# Altium footprint library sharing.PcbLib: 40 footprints (part 3 of 3)
Each footprint in its own frame and in the unit in brackets; x right, y up, seen from the top. Pads: shape width x height; smd on the part's side, far side on the other; paste and mask are expansions set on the pad; w line width, h text height; cw(c..) or ccw(c..) is an arc to the next point about the centre after c.
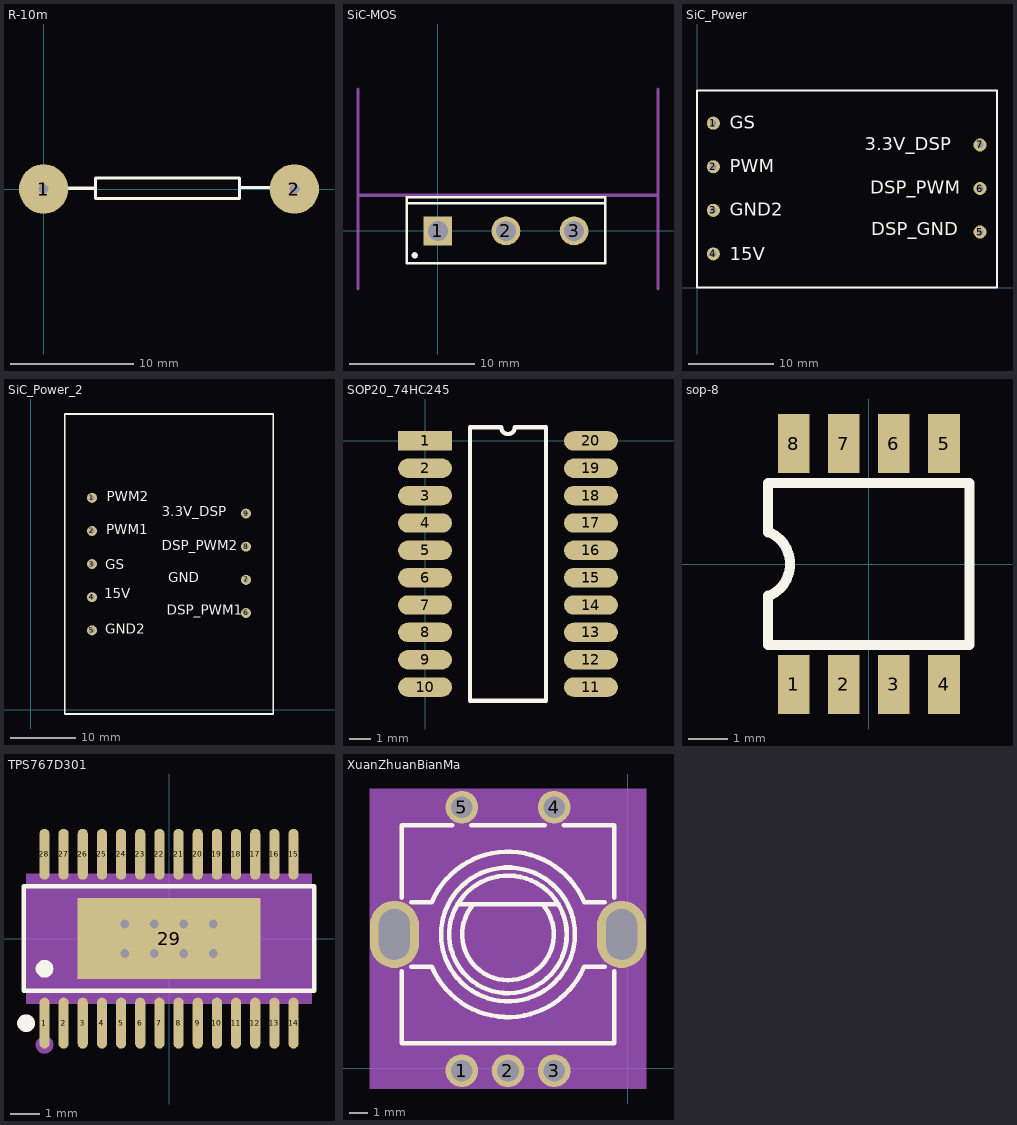
[diagram p2: the footprints below, top view; thin cyan lines are the x and y axes]

## R-10m [mm]
pads (2):
  round 4 hole 0.8: 1(0,0) 2(20.32,0)
Top Overlay:
  lines w0.254: 1.333,0.064 4.191,0.064 ; 15.875,0.127 19.05,0.127 ; 4.191,-0.762 15.875,-0.762 15.875,0.889 4.191,0.889 4.191,-0.762

## SiC-MOS [mm]
pads (3):
  rect 2.3x2.3 hole 1.6: 1(0.011,0)
  round 2.3 hole 1.6: 2(5.461,0) 3(10.911,0)
Top Overlay:
  circle w0.25: c-1.839,-1.95 r0.125
  lines w0.2: -2.489,2.2 13.411,2.2 ; -2.489,-2.6 13.411,-2.6 13.411,2.7 -2.489,2.7 -2.489,-2.6
Mechanical 1:
  lines w0.254: -6.375,-4.646 -6.375,11.354 ; -6.375,2.854 17.625,2.854 ; 17.625,-4.646 17.625,11.354
Mechanical 13:
  lines w0.1: -2.489,-2.6 13.411,-2.6 13.411,2.7 -2.489,2.7 -2.489,-2.6
Mechanical 15:
  lines w0.1: 4.961,0 5.961,0 ; 5.461,-0.5 5.461,0.5
3D body: height 24.6, standoff 3.7, extent -2.488,-2.599 13.41,2.699

## SiC_Power [mil]
pads (7):
  round 60 hole 30: 1(75,755) 2(75,555) 3(75,355) 4(75,155) 5(1300,255) 6(1300,455) 7(1300,655)
Top Overlay:
  lines w10: 0,0 0,905.51 1377.95,905.51 1377.95,0 0,0
  text "DSP_GND" at 800,240 h60
  text "DSP_PWM" at 795,430 h60
  text "3.3V_DSP" at 770,630 h60
  text "15V" at 150,125 h60
  text "GND2" at 150,330 h60
  text "PWM" at 150,530 h60
  text "GS" at 150,730 h60

## SiC_Power_2 [mil]
pads (9):
  round 60 hole 30: 1(370,1280) 2(370,1080) 3(370,880) 4(370,680) 5(370,480) 6(1300,585) 7(1300,785) 8(1300,985) 9(1300,1185)
Top Overlay:
  lines w10: 205.16,-25 1465,-25 1465,1786.02 205.16,1786.02 205.16,-25
  text "DSP_PWM1" at 820,575 h60
  text "GND" at 830,770 h60
  text "DSP_PWM2" at 790,965 h60
  text "3.3V_DSP" at 790,1170 h60
  text "GND2" at 450,460 h60
  text "15V" at 445,675 h60
  text "GS" at 450,850 h60
  text "PWM1" at 455,1060 h60
  text "PWM2" at 460,1260 h60

## SOP20_74HC245 [mm]
pads (20):
  rect 2.5x0.9 smd: 1(0,0)
  oval 2.5x0.9 smd: 2(0,-1.27) 3(0,-2.54) 4(0,-3.81) 5(0,-5.08) 6(0,-6.35) 7(0,-7.62) 8(0,-8.89) 9(0,-10.16) 10(0,-11.43) 11(7.7,-11.43) 12(7.7,-10.16) 13(7.7,-8.89) 14(7.7,-7.62) 15(7.7,-6.35) 16(7.7,-5.08) 17(7.7,-3.81) 18(7.7,-2.54) 19(7.7,-1.27) 20(7.7,0)
Top Overlay:
  lines w0.2: 2.085,-12.065 2.085,0.635 3.532,0.635 ccw(c3.85,0.635) 4.167,0.635 5.615,0.635 5.615,-12.065 2.085,-12.065

## sop-8 [mm]
pads (8):
  rect 0.8x1.5 smd: 1(-1.905,-3.048) 2(-0.635,-3.048) 3(0.635,-3.048) 4(1.905,-3.048) 5(1.905,3.048) 6(0.635,3.048) 7(-0.635,3.048) 8(-1.905,3.048)
Top Overlay:
  lines w0.254: -2.55,-0.8 -2.55,-2.05 2.55,-2.05 2.55,2.05 -2.55,2.05 -2.55,0.8 ; -2.5,-0.8 ccw(c-2.875,0) -2.5,0.8

## TPS767D301 [mm]
pads (29):
  oval 0.343x1.728 smd: 1(-4.225,-2.866) 2(-3.575,-2.866) 3(-2.925,-2.866) 4(-2.275,-2.866) 5(-1.625,-2.866) 6(-0.975,-2.866) 7(-0.325,-2.866) 8(0.325,-2.866) 9(0.975,-2.866) 10(1.625,-2.866) 11(2.275,-2.866) 12(2.925,-2.866) 13(3.575,-2.866) 14(4.225,-2.866) 15(4.225,2.866) 16(3.575,2.866) 17(2.925,2.866) 18(2.275,2.866) 19(1.625,2.866) 20(0.975,2.866) 21(0.325,2.866) 22(-0.325,2.866) 23(-0.975,2.866) 24(-1.625,2.866) 25(-2.275,2.866) 26(-2.925,2.866) 27(-3.575,2.866) 28(-4.225,2.866)
  rect 6.2x2.75 smd: 29(0,0)
via 1.5,0.5 diameter 0.6 hole 0.3
via 1.5,-0.5 diameter 0.6 hole 0.3
via 0.5,0.5 diameter 0.6 hole 0.3
via 0.5,-0.5 diameter 0.6 hole 0.3
via -0.5,0.5 diameter 0.6 hole 0.3
via -0.5,-0.5 diameter 0.6 hole 0.3
via -1.5,0.5 diameter 0.6 hole 0.3
via -1.5,-0.5 diameter 0.6 hole 0.3
Top Overlay:
  circle w0.3: c-4.849,-2.866 r0.15
  circle w0.3: c-4.225,-1.019 r0.15
  lines w0.152: -4.926,-1.771 4.926,-1.771 4.926,1.771 -4.926,1.771 -4.926,-1.771
Mechanical 4:
  region: -4.85,-2.2 -4.85,2.2 4.85,2.2 4.85,-2.2
Mechanical 5:
  drawing of 57 lines, arcs and shapes, not listed
Mechanical 15:
  circle w0.3: c-4.225,-3.6 r0.15

## XuanZhuanBianMa [mm]
pads (7):
  round 1.8 hole 1.2: 1(-9.144,-0.127) 2(-6.604,-0.127) 3(-4.064,-0.127) 4(-4.064,14.373) 5(-9.144,14.373)
  oval 2.7x3.7 hole 1.7 slot 2.8 at 90 deg: ""(-12.854,7.373) ""(-0.354,7.373)
Top Overlay:
  circle w0.254: c-6.604,7.373 r3.234
  circle w0.254: c-6.604,7.373 r3.683
  lines w0.254: -12.454,5.343 -12.454,1.373 -0.754,1.373 -0.754,5.343 ; -12.454,9.403 -12.454,13.373 -9.67,13.373 ; -11.925,5.595 -10.795,5.595 ccw(c-6.604,7.373) -2.433,5.548 ; -11.925,9.151 -10.795,9.151 ; -10.775,9.198 cw(c-6.604,7.373) -2.413,9.151 -1.283,9.151 ; -9.398,9.024 -3.81,9.024 ; -8.618,13.373 -4.59,13.373 ; -8.509,9.024 ccw(c-6.604,7.373) -4.699,9.024 ; -3.538,13.373 -0.754,13.373 -0.754,9.403 ; -2.413,5.595 -1.283,5.595
Mechanical 4:
  region: -14.204,15.374 0.996,15.374 0.996,-1.136 -14.204,-1.136
Mechanical 5:
  region: -14.204,9.223 -11.504,9.223 -11.504,5.523 -14.204,5.523
  region: -1.704,9.223 0.996,9.223 0.996,5.523 -1.704,5.523
  region: -10.044,15.273 -8.244,15.273 -8.244,13.473 -10.044,13.473
  region: -4.964,15.273 -3.164,15.273 -3.164,13.473 -4.964,13.473
  region: -4.964,0.773 -3.164,0.773 -3.164,-1.027 -4.964,-1.027
  region: -7.504,0.773 -5.704,0.773 -5.704,-1.027 -7.504,-1.027
  region: -10.044,0.773 -8.244,0.773 -8.244,-1.027 -10.044,-1.027